# Altium schematic symbol library TRANS-EN-DSG.SCHLIB: 1 symbol
Pins are listed as number, name and electrical type; pins without a type are passive.

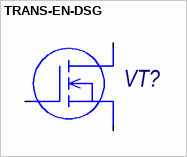
[diagram p0: symbol TRANS-EN-DSG]

## TRANS-EN-DSG
designator VT?
MOSFET
pins: 1 D, 2 S, 3 G